# EAGLE library part HUB_PORT (library gumyns)
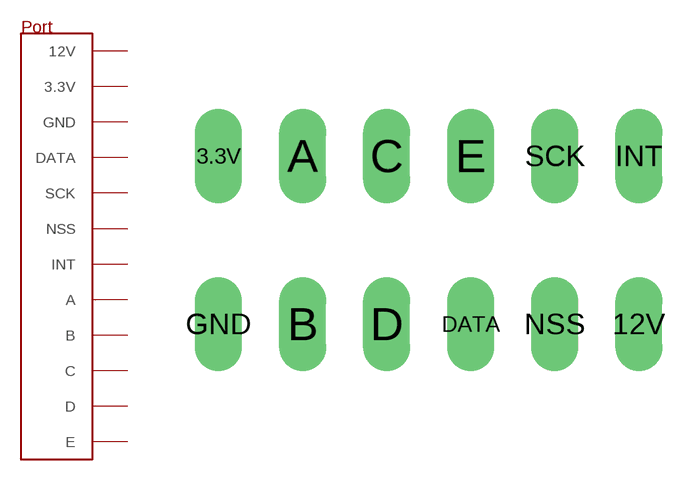
[diagram p1: symbol with the pads of HUB_PORT; footprint HUB_PORT]

Designator prefix -

## HUB_PORT  [HUB_PORT]
3.3V  3.3V
12V  12V
A  A
B  B
C  C
D  D
DATA  DATA
E  E
GND  GND
INT  INT
NSS  NSS
SCK  SCK

## Footprint HUB_PORT (pad centres in mm)
drill 0.9 pad 1.422 long: 3.3V -2.54,2.54; 12V 10.16,-2.54; A 0,2.54; B 0,-2.54; C 2.54,2.54; D 2.54,-2.54; DATA 5.08,-2.54; E 5.08,2.54; GND -2.54,-2.54; INT 10.16,2.54; NSS 7.62,-2.54; SCK 7.62,2.54